# Altium schematic symbol library RF.SchLib: 2 symbols
Pins are listed as number, name and electrical type; pins without a type are passive.

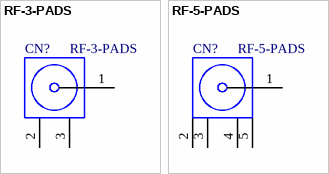
[diagram p0: symbols RF-3-PADS to RF-5-PADS]

## RF-3-PADS
designator CN?
value: iPEX
footprint I-PEX (I-PEX Surface Mount Plug)
pins: 1, 2, 3

## RF-5-PADS
designator CN?
value: RF-5-PADS
footprint SMA-16 (Edge female socket SMA)
footprint SMA-MOLEX-73251-2120 (RF / Coaxial Connector, PCB Edge Mount, SMA Coaxial, Straight Bulkhead Jack)
footprint SMA-RIGHT (Through Hole, Right Angle)
footprint SMA-VERTICAL (Through Hole, Vertical)
pins: 1, 2, 3, 4, 5